# EAGLE library part 43650-0615 (library con-Molex)
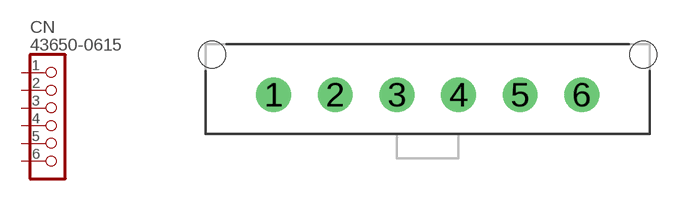
[diagram p10: symbol with the pads of 43650-0615; footprint 43650-0615]

Designator prefix CN

## 43650-0615  [43650-0615]
1  1  pas
2  2  pas
3  3  pas
4  4  pas
5  5  pas
6  6  pas

## Footprint 43650-0615 (pad centres in mm)
drill 1.1 pad 1.7: 1 -7.5,0; 2 -4.5,0; 3 -1.5,0; 4 1.5,0; 5 4.5,0; 6 7.5,0
hole 1.3 at 10.5,1.96
hole 1.3 at -10.5,1.96